# Altium schematic symbol library zener_A1C3.Schlib: 1 symbol
Pins are listed as number, name and electrical type; pins without a type are passive.

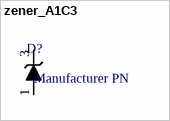
[diagram p0: symbol zener_A1C3]

## zener_A1C3
designator D?
Zener, Anode pin 1, Cathode pin 3
pins: 1, 3